# Altium schematic symbol library SCH - MCU - NUVOTON - NUVOTON NUC029FAE.SchLib: 1 symbol
Pins are listed as number, name and electrical type; pins without a type are passive.

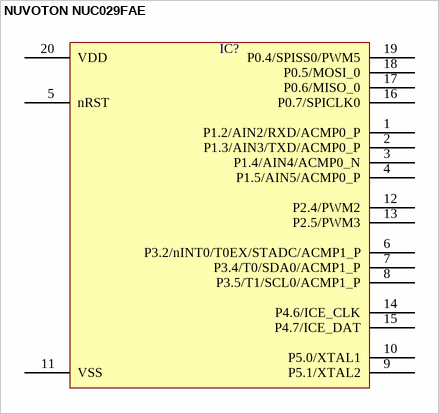
[diagram p0: symbol NUVOTON NUC029FAE]

## NUVOTON NUC029FAE
designator IC?  (value not drawn)
pins: 1 P1.2/AIN2/RXD/ACMP0_P, 2 P1.3/AIN3/TXD/ACMP0_P, 3 P1.4/AIN4/ACMP0_N, 4 P1.5/AIN5/ACMP0_P, 5 nRST, 6 P3.2/nINT0/T0EX/STADC/ACMP1_P, 7 P3.4/T0/SDA0/ACMP1_P, 8 P3.5/T1/SCL0/ACMP1_P, 9 P5.1/XTAL2, 10 P5.0/XTAL1, 11 VSS, 12 P2.4/PWM2, 13 P2.5/PWM3, 14 P4.6/ICE_CLK, 15 P4.7/ICE_DAT, 16 P0.7/SPICLK0, 17 P0.6/MISO_0, 18 P0.5/MOSI_0, 19 P0.4/SPISS0/PWM5, 20 VDD